# Altium schematic symbol library TLV431AFTA.Schlib: 1 symbol
Pins are listed as number, name and electrical type; pins without a type are passive.

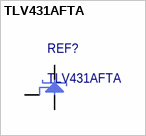
[diagram p0: symbol TLV431AFTA]

## TLV431AFTA
designator REF?
pins: 1 REF, 2 C, 3 A